# Altium footprint library SYZYGY_STD_CARRIER_MECH.PcbLib: 1 footprints
Each footprint in its own frame and in the unit in brackets; x right, y up, seen from the top. Pads: shape width x height; smd on the part's side, far side on the other; paste and mask are expansions set on the pad; w line width, h text height; cw(c..) or ccw(c..) is an arc to the next point about the centre after c.
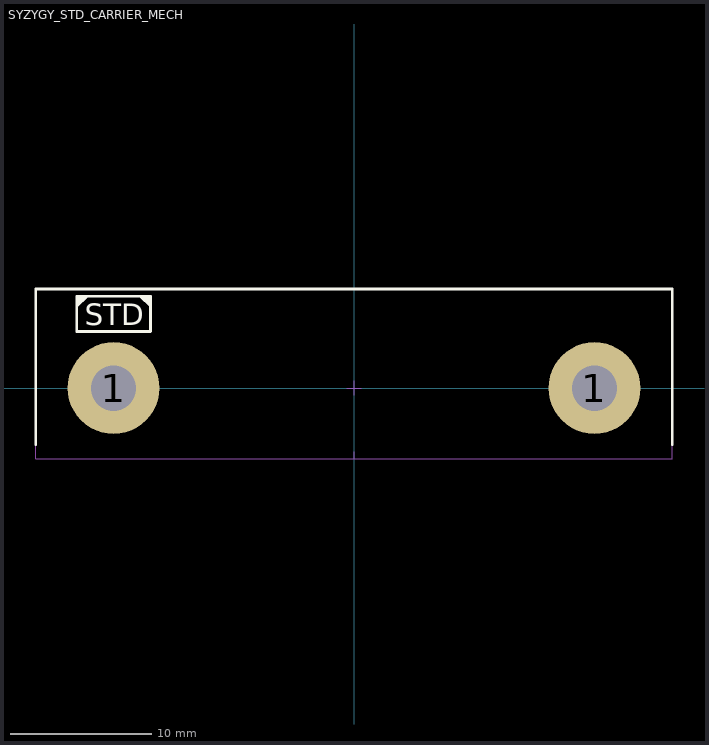
[diagram p0: the footprint, top view; thin cyan lines are the x and y axes]

## SYZYGY_STD_CARRIER_MECH [mm]
pads (2):
  round 6.5 hole 3.2: 1(-17,0) 1(17,0)
Top Overlay:
  region: -14.4,6.5 -14.4,5.8 -15.1,6.5
  region: -19.6,6.5 -19.6,5.8 -18.9,6.5
  lines w0.2: -22.5,-4 -22.5,7 22.5,7 22.5,-4 ; -19.6,5.8 -18.9,6.5 ; -15.1,6.5 -14.4,5.8 ; -19.6,4 -14.4,4 -14.4,6.5 -19.6,6.5 -19.6,4
  text "STD" at -19.031,4.454 h1.52
Mechanical 15:
  lines w0.05: -0.508,0 0.508,0 ; 0,-5 0,-4.5 ; 0,-0.508 0,0.508 ; -22.5,-5 -22.5,7 22.5,7 22.5,-5 -22.5,-5